# Altium schematic symbol library lib.SchLib: 1 symbol
Pins are listed as number, name and electrical type; pins without a type are passive.

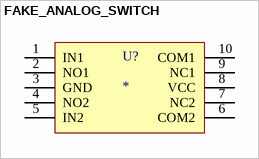
[diagram p0: symbol FAKE_ANALOG_SWITCH]

## FAKE_ANALOG_SWITCH
designator U?
I MADE A BAD DESIGN CHOICE AND HAVE TO LIVE WITH IT NOW
footprint SMTPCB-SPOOF-UFQFN-10 (QFN, 10-Leads, Body 1.50x2.00mm, Pitch 0.50mm, IPC High Density)
pins: 1 IN1, 2 NO1, 3 GND, 4 NO2, 5 IN2, 6 COM2, 7 NC2, 8 VCC, 9 NC1, 10 COM1